# EAGLE library part TRANSFORMER_838-3FS-216 (library MyParts)
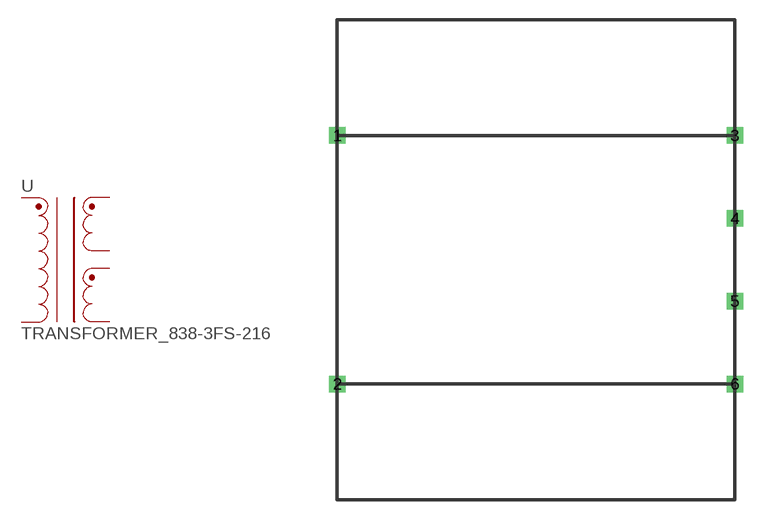
[diagram p4: symbol with the pads of TRANS_838-3FS-216; footprint TRANS_838-3FS-216]

Designator prefix -

## TRANSFORMER_838-3FS-216  [TRANS_838-3FS-216]
1  1  pas
2  2  pas
3  3  pas
4  4  pas
5  5  pas
6  6  pas

## Footprint TRANS_838-3FS-216 (pad centres in mm)
drill 0.6 pad 1.27 square: 1 -13.97,10.16; 2 -13.97,-8.89; 3 16.51,10.16; 4 16.51,3.81; 5 16.51,-2.54; 6 16.51,-8.89